# Altium schematic symbol library ERJU01F2202C.SchLib: 1 symbol
Pins are listed as number, name and electrical type; pins without a type are passive.

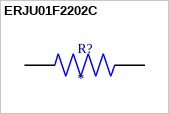
[diagram p0: symbol ERJU01F2202C]

## ERJU01F2202C
designator R?
MP: ERJU01F2202C; Value: *; Package: None; Availability: Unavailable; Price: None
footprint RES_ERJU01F2202C
pins: 1, 2